# Altium footprint library capa66x66x58.PcbLib: 1 footprints
Each footprint in its own frame and in the unit in brackets; x right, y up, seen from the top. Pads: shape width x height; smd on the part's side, far side on the other; paste and mask are expansions set on the pad; w line width, h text height; cw(c..) or ccw(c..) is an arc to the next point about the centre after c.
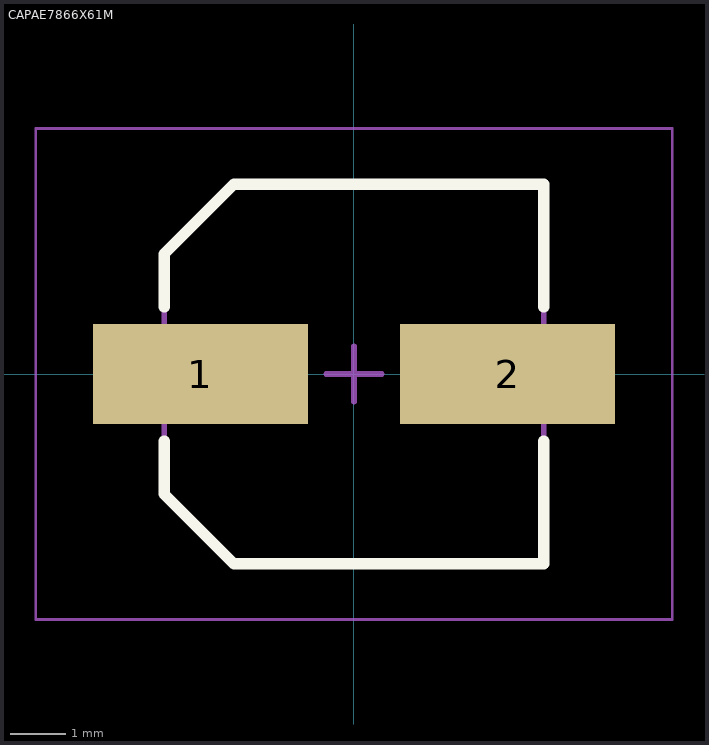
[diagram p0: the footprint, top view; thin cyan lines are the x and y axes]

## CAPAE7866X61M [mm] "Aluminum Electrolytic Capacitor, Body 6,60x6,60x6,10mm, IPC Low Density"
height 6.1
pads (2):
  rect 3.85x1.8 smd: 1(-2.75,0) 2(2.75,0)
Top Overlay:
  lines w0.2: -3.4,-1.2 -3.4,-2.15 -2.15,-3.4 3.4,-3.4 3.4,-1.2 ; -3.4,1.2 -3.4,2.15 -2.15,3.4 3.4,3.4 3.4,1.2
Mechanical 7:
  text ".Comment" at 0.7,5.2 h1.2
Mechanical 9 (Mech9):
  text ".Designator" at -0.7,5.2 h1.2
Top Component Outline:
  lines w0.1: -3.4,-2.15 -3.4,2.15 -2.15,3.4 3.4,3.4 3.4,-3.4 -2.15,-3.4 -3.4,-2.15
Top Courtyard:
  lines w0.05: -5.7,-4.4 5.7,-4.4 5.7,4.4 -5.7,4.4 -5.7,-4.4
  lines w0.1: -0.5,0 0.5,0 ; 0,-0.5 0,0.5
3D body: height 6.1, standoff 0, extent -3.4,-3.4 3.4,3.4
3D body: height 2.04, standoff 0, extent -3.4,-3.4 3.4,3.4